# Altium footprint library XTAL_HC49P488W43L1150T466H350.PcbLib: 1 footprints
Each footprint in its own frame and in the unit in brackets; x right, y up, seen from the top. Pads: shape width x height; smd on the part's side, far side on the other; paste and mask are expansions set on the pad; w line width, h text height; cw(c..) or ccw(c..) is an arc to the next point about the centre after c.
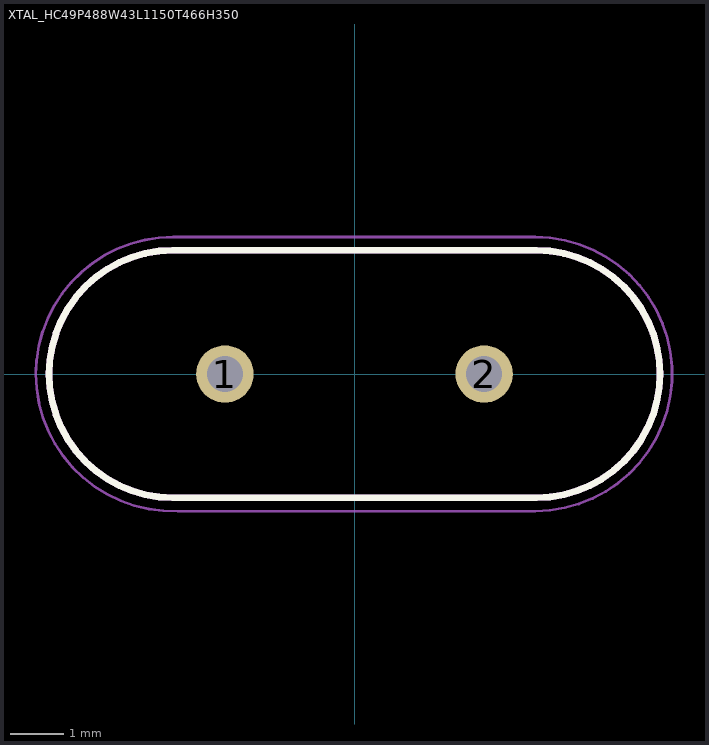
[diagram p0: the footprint, top view; thin cyan lines are the x and y axes]

## XTAL_HC49P488W43L1150T466H350 [mm]
pads (2):
  round 1.08 hole 0.68: 1(-2.44,0) 2(2.44,0)
Top Overlay:
  lines w0.127: -5.75,0 cw(c-3.42,0) -3.42,2.33 3.42,2.33 cw(c3.42,0) 5.75,0 cw(c3.42,0) 3.42,-2.33 -3.42,-2.33 cw(c-3.42,0) -5.75,0
Assembly Top:
  lines w0.127: -5.75,0 cw(c-3.42,0) -3.42,2.33 3.42,2.33 cw(c3.42,0) 5.75,0 cw(c3.42,0) 3.42,-2.33 -3.42,-2.33 cw(c-3.42,0) -5.75,0
Courtyard Top:
  lines w0.05: -6,-0.005 cw(c-3.415,-0.005) -3.415,2.58 ; -6,0.005 ccw(c-3.413,0.005) -3.322,-2.581 ; -3.41,2.58 3.4,2.58 cw(c3.4,0) 3.4,-2.58 -3.3,-2.58
3D body "step_temp.STEP": height 3.5, standoff -20.1, extent -5.75,-2.33 5.75,2.33